# Altium footprint library 2MS1T1B4VS2QES.PcbLib: 1 footprints
Each footprint in its own frame and in the unit in brackets; x right, y up, seen from the top. Pads: shape width x height; smd on the part's side, far side on the other; paste and mask are expansions set on the pad; w line width, h text height; cw(c..) or ccw(c..) is an arc to the next point about the centre after c.
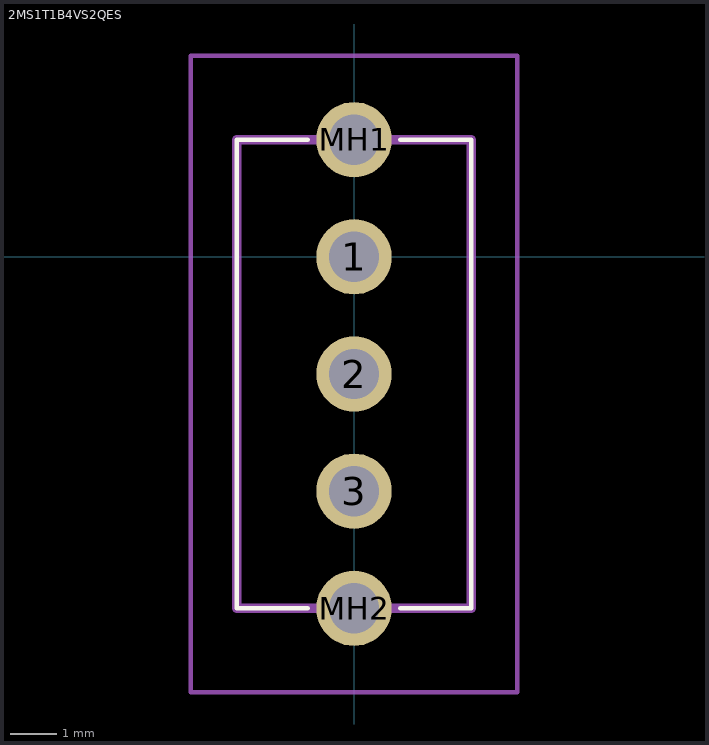
[diagram p0: the footprint, top view; thin cyan lines are the x and y axes]

## 2MS1T1B4VS2QES [mm]
pads (5):
  round 1.635 hole 1.09: 1(0,0) 2(0,-2.54) 3(0,-5.08) MH1(0,2.54) MH2(0,-7.62)
Top Overlay:
  lines w0.1: -1,-7.62 -2.54,-7.62 -2.54,2.54 -1,2.54 ; 1,-7.62 2.54,-7.62 2.54,2.54 1,2.54
Mechanical 15:
  lines w0.2: -2.54,-7.62 2.54,-7.62 2.54,2.54 -2.54,2.54 -2.54,-7.62
Mechanical 20:
  lines w0.1: -3.54,-9.438 3.54,-9.438 3.54,4.358 -3.54,4.358 -3.54,-9.438